# Altium schematic symbol library TUSB.SchLib: 1 symbol
Pins are listed as number, name and electrical type; pins without a type are passive.

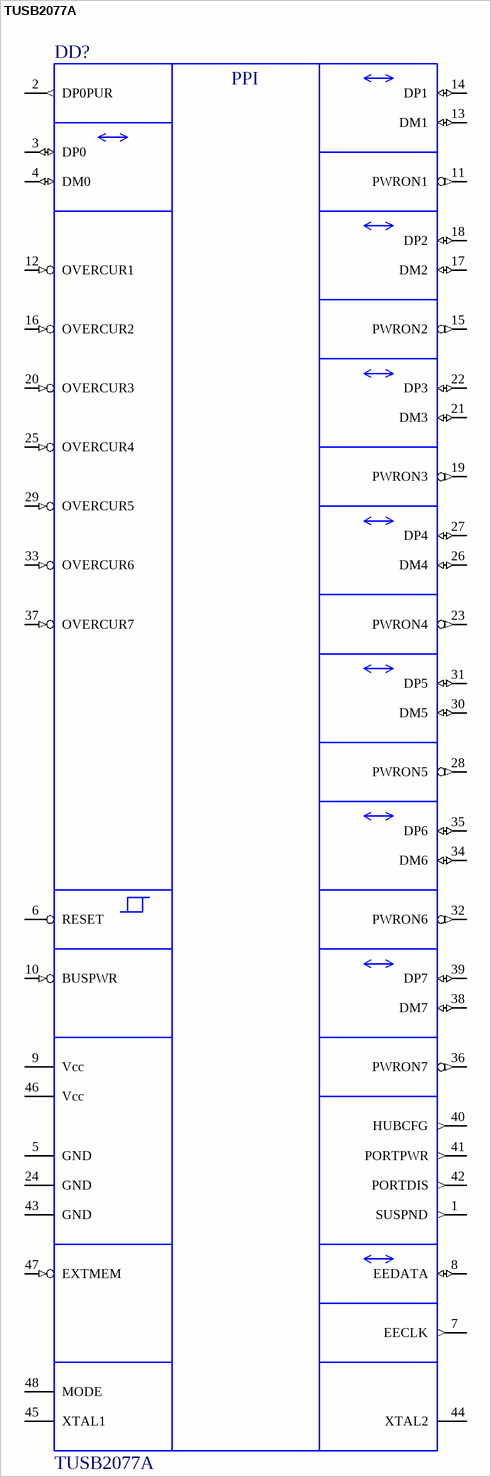
[diagram p0: symbol TUSB2077A]

## TUSB2077A
designator DD?
7-Port Hub for USB with optional serial EEPROM interface; ValueSch: TUSB2077A
pins: 1 SUSPND (out), 2 DP0PUR (out), 3 DP0 (io), 4 DM0 (io), 5 GND (power), 6 RESET, 7 EECLK (out), 8 EEDATA (io), 9 Vcc (power), 10 BUSPWR (in), 11 PWRON1 (out), 12 OVERCUR1 (in), 13 DM1 (io), 14 DP1 (io), 15 PWRON2 (out), 16 OVERCUR2 (in), 17 DM2 (io), 18 DP2 (io), 19 PWRON3 (out), 20 OVERCUR3 (in), 21 DM3 (io), 22 DP3 (io), 23 PWRON4 (out), 24 GND (power), 25 OVERCUR4 (in), 26 DM4 (io), 27 DP4 (io), 28 PWRON5 (out), 29 OVERCUR5 (in), 30 DM5 (io), 31 DP5 (io), 32 PWRON6 (out), 33 OVERCUR6 (in), 34 DM6 (io), 35 DP6 (io), 36 PWRON7 (out), 37 OVERCUR7 (in), 38 DM7 (io), 39 DP7 (io), 40 HUBCFG (out), 41 PORTPWR (out), 42 PORTDIS (out), 43 GND (power), 44 XTAL2, 45 XTAL1, 46 Vcc (power), 47 EXTMEM (in), 48 MODE
text: PPI